# Altium footprint library VarReg.PcbLib: 8 footprints
Each footprint in its own frame and in the unit in brackets; x right, y up, seen from the top. Pads: shape width x height; smd on the part's side, far side on the other; paste and mask are expansions set on the pad; w line width, h text height; cw(c..) or ccw(c..) is an arc to the next point about the centre after c.
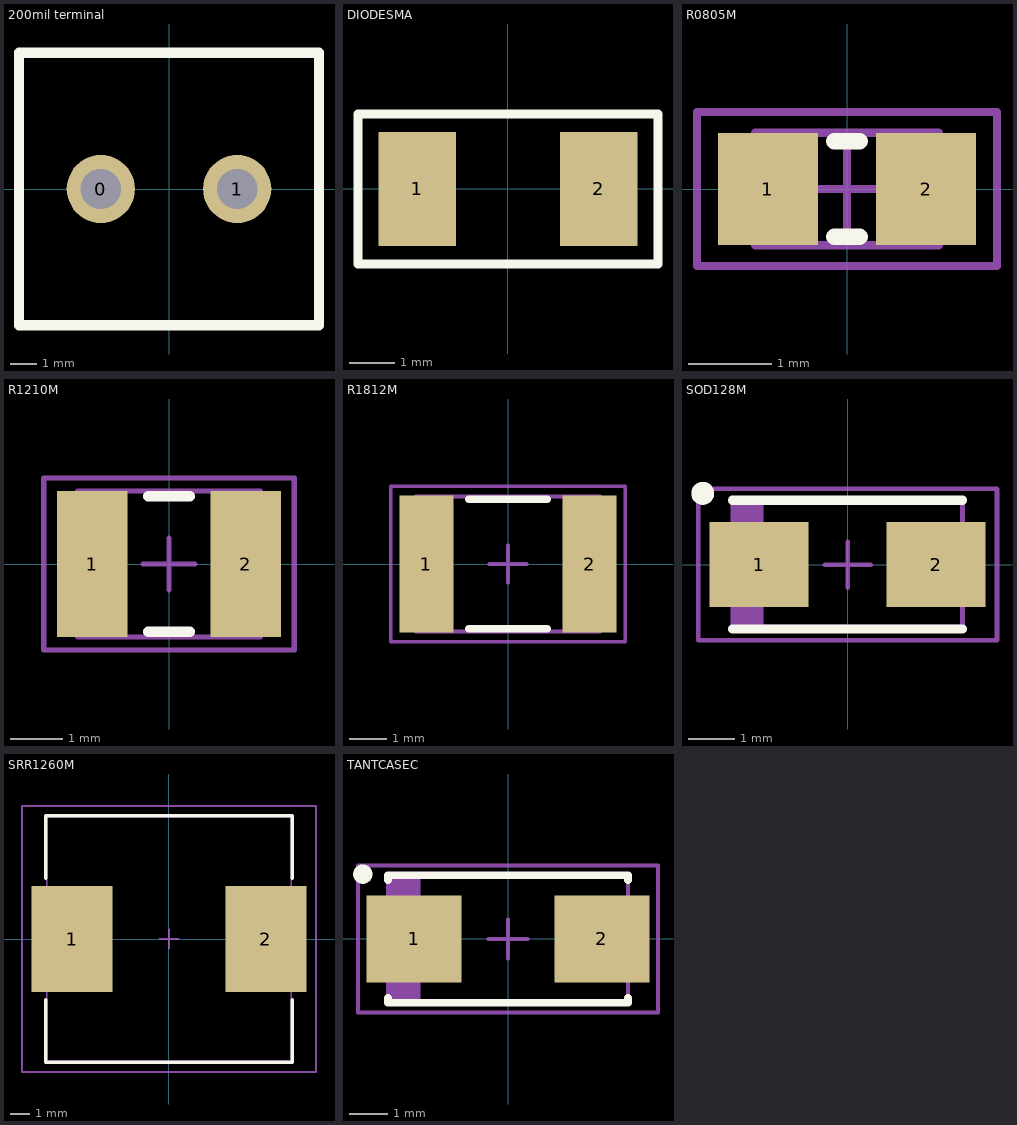
[diagram p0: the footprints below, top view; thin cyan lines are the x and y axes]

## 200mil terminal [mm]
height 5
pads (2):
  round 2.54 hole 1.5: 0(-2.54,0) 1(2.54,0)
Top Overlay:
  lines w0.381: -5.588,-5.08 -5.588,5.08 5.588,5.08 5.588,-5.08 0,-5.08 -5.588,-5.08

## DIODESMA [mm]
pads (2):
  rect 1.7x2.5 smd: 1(-2,0) 2(2,0)
Top Overlay:
  lines w0.2: -3.302,-1.651 3.302,-1.651 3.302,1.651 -3.302,1.651 -3.302,-1.651

## R0805M [mm] "Chip Resistor, 2-Leads, Body 2.0x1.3mm, IPC Medium Density"
height 0.6
pads (2):
  rect 1.2x1.35 smd: 1(-0.95,0) 2(0.95,0)
Top Overlay:
  lines w0.2: -0.15,-0.575 0.15,-0.575 ; -0.15,0.575 0.15,0.575
Mechanical 13:
  lines w0.1: -1.1,-0.675 -1.1,0.675 1.1,0.675 1.1,-0.675 -1.1,-0.675
Mechanical 15:
  lines w0.1: -0.5,0 0.5,0 ; 0,-0.5 0,0.5 ; -1.8,-0.925 -1.8,0.925 1.8,0.925 1.8,-0.925 -1.8,-0.925
3D body: height 0.6, standoff 0, extent -1.1,-0.675 1.1,0.675

## R1210M [mm] "Chip Capacitor, 2-Leads, Body 3.2x2.5mm, IPC Medium Density"
height 1.5
pads (2):
  rect 1.35x2.8 smd: 1(-1.475,0) 2(1.475,0)
Top Overlay:
  lines w0.2: -0.4,-1.3 0.4,-1.3 ; -0.4,1.3 0.4,1.3
Mechanical 13:
  lines w0.1: -1.75,-1.4 -1.75,1.4 1.75,1.4 1.75,-1.4 -1.75,-1.4
Mechanical 15:
  lines w0.1: -0.5,0 0.5,0 ; 0,-0.5 0,0.5 ; -2.4,-1.65 -2.4,1.65 2.4,1.65 2.4,-1.65 -2.4,-1.65
3D body: height 1.5, standoff 0, extent -1.75,-1.4 1.75,1.4

## R1812M [mm]
height 2
pads (2):
  rect 1.45x3.65 smd: 1(-2.175,0) 2(2.175,0)
Top Overlay:
  lines w0.2: -1.05,-1.725 1.05,-1.725 ; -1.05,1.725 1.05,1.725
Mechanical 13:
  lines w0.1: -2.45,-1.8 2.45,-1.8 2.45,1.8 -2.45,1.8 -2.45,-1.8
Mechanical 15:
  lines w0.1: -0.5,0 0.5,0 ; 0,-0.5 0,0.5 ; -3.125,-2.075 3.125,-2.075 3.125,2.075 -3.125,2.075 -3.125,-2.075
3D body: height 2, standoff 0, extent -2.45,-1.8 2.45,1.8

## SOD128M [mm] "Molded Diode, 2-Leads, Body 4.7x2.5mm, IPC Medium Density"
height 1
pads (2):
  rect 2.15x1.85 smd: 1(-1.925,0) 2(1.925,0)
Top Overlay:
  circle w0.25: c-3.15,1.55 r0.125
  lines w0.2: -2.5,-1.4 2.5,-1.4 ; -2.5,1.4 2.5,1.4
Mechanical 13:
  rectangle: -2.5,-1.35 -1.827,1.35
  lines w0.1: -2.5,-1.35 -2.5,1.35 2.5,1.35 2.5,-1.35 -2.5,-1.35
Mechanical 15:
  lines w0.1: -0.5,0 0.5,0 ; 0,-0.5 0,0.5 ; -3.25,-1.65 -3.25,1.65 3.25,1.65 3.25,-1.65 -3.25,-1.65
3D body: height 1, standoff 0, extent -2.5,-1.35 2.5,1.35

## SRR1260M [mm]
height 6
pads (2):
  rect 4.25x5.55 smd: 1(-5.075,0) 2(5.075,0)
Top Overlay:
  lines w0.2: -6.45,-3.175 -6.45,-6.45 6.45,-6.45 6.45,-3.175 ; -6.45,3.175 -6.45,6.45 6.45,6.45 6.45,3.175
Mechanical 13:
  lines w0.1: -6.4,-6.4 6.4,-6.4 6.4,6.4 -6.4,6.4 -6.4,-6.4
Mechanical 15:
  lines w0.1: -0.5,0 0.5,0 ; 0,-0.5 0,0.5 ; -7.7,-6.95 7.7,-6.95 7.7,6.95 -7.7,6.95 -7.7,-6.95
3D body: height 6, standoff 0, extent -6.4,-6.4 6.4,6.4

## TANTCASEC [mm] "Molded Capacitor, 2-Leads, Body 6.1x3.3mm, IPC Medium Density"
height 2.6
pads (2):
  rect 2.45x2.25 smd: 1(-2.425,0) 2(2.425,0)
Top Overlay:
  circle w0.25: c-3.75,1.675 r0.125
  lines w0.2: -3.1,-1.525 -3.1,-1.65 3.1,-1.65 3.1,-1.525 ; -3.1,1.525 -3.1,1.65 3.1,1.65 3.1,1.525
Mechanical 13:
  rectangle: -3.1,-1.65 -2.266,1.65
  lines w0.1: -3.1,-1.65 -3.1,1.65 3.1,1.65 3.1,-1.65 -3.1,-1.65
Mechanical 15:
  lines w0.1: -0.5,0 0.5,0 ; 0,-0.5 0,0.5 ; -3.875,-1.9 -3.875,1.9 3.875,1.9 3.875,-1.9 -3.875,-1.9
3D body: height 2.6, standoff 0, extent -3.1,-1.65 3.1,1.65